# EAGLE library part ATMEGA328P-PU (library innove-microcontrollers)
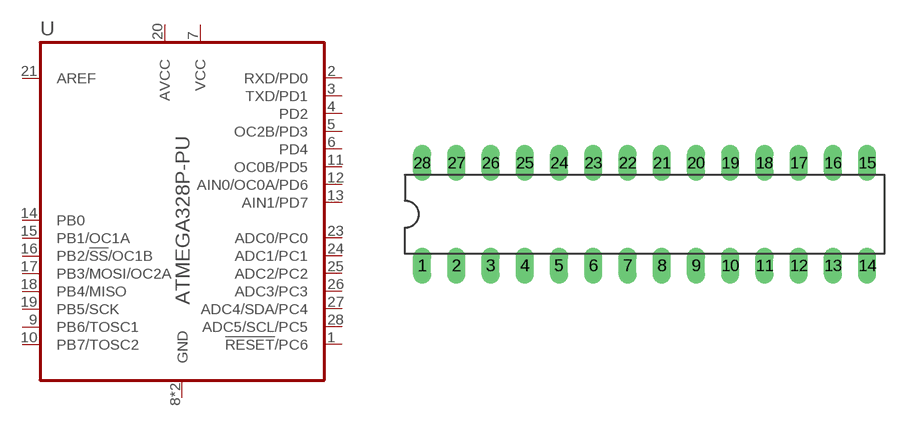
[diagram p7: symbol with the pads of DIL28-3; footprint DIL28-3]

Designator prefix U

## ATMEGA328P-PU  [DIL28-3]
1  !RESET!/PC6
2  RXD/PD0
3  TXD/PD1
4  PD2
5  OC2B/PD3
6  PD4
7  VCC  pwr
8  GND  pwr
9  PB6/TOSC1
10  PB7/TOSC2
11  OC0B/PD5
12  AIN0/OC0A/PD6
13  AIN1/PD7
14  PB0
15  PB1/OC1A
16  PB2/!SS!/OC1B
17  PB3/MOSI/OC2A
18  PB4/MISO
19  PB5/SCK
20  AVCC  pwr
21  AREF  in
22  GND  pwr
23  ADC0/PC0
24  ADC1/PC1
25  ADC2/PC2
26  ADC3/PC3
27  ADC4/SDA/PC4
28  ADC5/SCL/PC5

## Footprint DIL28-3 (pad centres in mm)
Dual In Line Package Small
drill 0.813 long: 1 -16.51,-3.81; 2 -13.97,-3.81; 3 -11.43,-3.81; 4 -8.89,-3.81; 5 -6.35,-3.81; 6 -3.81,-3.81; 7 -1.27,-3.81; 8 1.27,-3.81; 9 3.81,-3.81; 10 6.35,-3.81; 11 8.89,-3.81; 12 11.43,-3.81; 13 13.97,-3.81; 14 16.51,-3.81; 15 16.51,3.81; 16 13.97,3.81; 17 11.43,3.81; 18 8.89,3.81; 19 6.35,3.81; 20 3.81,3.81; 21 1.27,3.81; 22 -1.27,3.81; 23 -3.81,3.81; 24 -6.35,3.81; 25 -8.89,3.81; 26 -11.43,3.81; 27 -13.97,3.81; 28 -16.51,3.81